# Altium integrated library Linear Technology Power Management LDO Linear Regulators.IntLib: 2339 symbols (part 34 of 131)
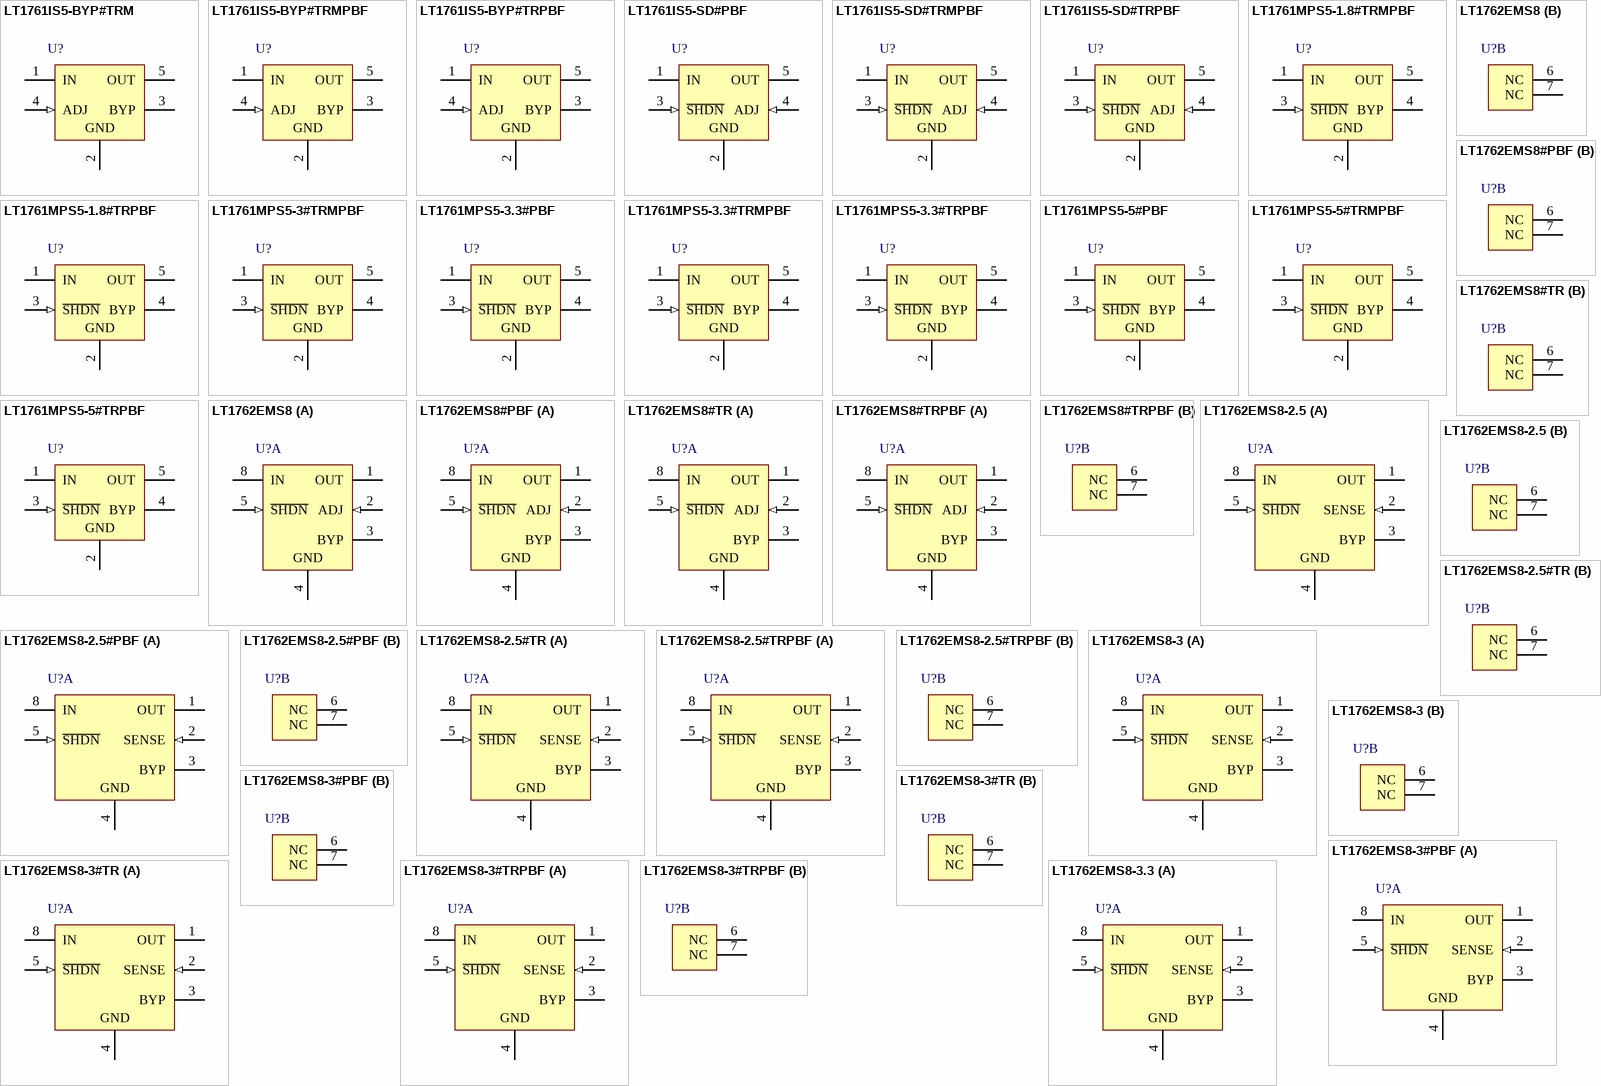
[diagram p102: symbols LT1761IS5-BYP#TRM to LT1762EMS8-3.3]

## LT1761MPS5-5#PBF
designator U?
100 mA, Low Noise, LDO Micropower Regulator, 1.8 to 20 V Vin, 5 V Vout, 5-pin SOT23 (S5-5), -55 to 125 degC, Pb-Free; Manufacturer: Linear Technology; PartNumber: LT1761MPS5-5#PBF; Discrete Pass Element: no; Dropout Voltage(V): 0.3; Iout(mA): 100; Isupply(mA): 0.02; Noise(uV): 20; Number of Outputs: 1; Output Voltage: 5 V; PSRR(dB): 65; Vin Min(V): 1.8; DatasheetVersion: Rev. F; PackageVersion: Jun-10; PackageReference: S5-5; PackageDescription: 5-Pin Plastic TSOT-23, Body 1.63 x 2.90 mm, Pitch 0.95 mm; Supplier 1: Farnell; Supplier Part Number 1: 1833788; Supplier 2: Newark; Supplier Part Number 2: 79R3064; RoHS: TRUE; Shutdown Current(uA): 1; Vin Max(V): 20; Mounting Technology: Surface Mount; Code_JEDEC: MO-193; ComponentLink1Description: Manufacturer URL; ComponentLink1URL: http://www.linear.com/; ComponentLink2Description: Datasheet; ComponentLink2URL: http://cds.linear.com/docs/en/datasheet/1761sff.pdf; ComponentLink3Description: Package Specification; ComponentLink3URL: http://cds.linear.com/docs/en/packaging/SOT_5_05-08-1635.pdf
footprint LT-S5-5-TSOT-23_N (SOT23, 5-Leads, Body 2.90x1.63mm, Pitch 0.95mm, IPC Medium Density)
footprint LT-S5-5-TSOT-23_L (SOT23, 5-Leads, Body 2.90x1.63mm, Pitch 0.95mm, IPC High Density)
footprint LT-S5-5-TSOT-23_M (SOT23, 5-Leads, Body 2.90x1.63mm, Pitch 0.95mm, IPC Low Density)
pins: 1 IN (power) "Power is supplied to the device through the IN pin.", 2 GND (power) "Ground.", 3 ~{SHDN} (in) "Shutdown.", 4 BYP "Bypass. If not used, this pin must be left unconnected.", 5 OUT (power) "The output supplies power to the load. A minimum output capacitor of 1uF is required to prevent oscillations. Larger output capacitors will be required for applications with large transient loads to limit peak voltage (See Datasheet)"

## LT1761MPS5-5#TRMPBF
designator U?
100 mA, Low Noise, LDO Micropower Regulator, 1.8 to 20 V Vin, 5 V Vout, 5-pin SOT23 (S5-5), -55 to 125 degC, Pb-Free, Mini Tape and Reel; Manufacturer: Linear Technology; PartNumber: LT1761MPS5-5#TRMPBF; Discrete Pass Element: no; Dropout Voltage(V): 0.3; Iout(mA): 100; Isupply(mA): 0.02; Noise(uV): 20; Number of Outputs: 1; Output Voltage: 5 V; PSRR(dB): 65; Vin Min(V): 1.8; DatasheetVersion: Rev. F; PackageVersion: Jun-10; PackageReference: S5-5; PackageDescription: 5-Pin Plastic TSOT-23, Body 1.63 x 2.90 mm, Pitch 0.95 mm; Supplier 1: Digi-Key; Supplier Part Number 1: LT1761MPS5-5#TRMPBFTR-ND; Supplier 2: Digi-Key; Supplier Part Number 2: LT1761MPS5-5#TRMPBFCT-ND; Supplier 3: Digi-Key; Supplier Part Number 3: LT1761MPS5-5#TRMPBFDKR-ND; Supplier 4: Newark; Supplier Part Number 4: 78R8409; Packing: Mini Tape and Reel; RoHS: TRUE; Shutdown Current(uA): 1; Vin Max(V): 20; Mounting Technology: Surface Mount; Code_JEDEC: MO-193; ComponentLink1Description: Manufacturer URL; ComponentLink1URL: http://www.linear.com/; ComponentLink2Description: Datasheet; ComponentLink2URL: http://cds.linear.com/docs/en/datasheet/1761sff.pdf; ComponentLink3Description: Package Specification; ComponentLink3URL: http://cds.linear.com/docs/en/packaging/SOT_5_05-08-1635.pdf
footprint LT-S5-5-TSOT-23_N (SOT23, 5-Leads, Body 2.90x1.63mm, Pitch 0.95mm, IPC Medium Density)
footprint LT-S5-5-TSOT-23_L (SOT23, 5-Leads, Body 2.90x1.63mm, Pitch 0.95mm, IPC High Density)
footprint LT-S5-5-TSOT-23_M (SOT23, 5-Leads, Body 2.90x1.63mm, Pitch 0.95mm, IPC Low Density)
pins: 1 IN (power) "Power is supplied to the device through the IN pin.", 2 GND (power) "Ground.", 3 ~{SHDN} (in) "Shutdown.", 4 BYP "Bypass. If not used, this pin must be left unconnected.", 5 OUT (power) "The output supplies power to the load. A minimum output capacitor of 1uF is required to prevent oscillations. Larger output capacitors will be required for applications with large transient loads to limit peak voltage (See Datasheet)"

## LT1761MPS5-5#TRPBF
designator U?
100 mA, Low Noise, LDO Micropower Regulator, 1.8 to 20 V Vin, 5 V Vout, 5-pin SOT23 (S5-5), -55 to 125 degC, Pb-Free, Tape and Reel; Manufacturer: Linear Technology; PartNumber: LT1761MPS5-5#TRPBF; Discrete Pass Element: no; Dropout Voltage(V): 0.3; Iout(mA): 100; Isupply(mA): 0.02; Noise(uV): 20; Number of Outputs: 1; Output Voltage: 5 V; PSRR(dB): 65; Vin Min(V): 1.8; DatasheetVersion: Rev. F; PackageVersion: Jun-10; PackageReference: S5-5; PackageDescription: 5-Pin Plastic TSOT-23, Body 1.63 x 2.90 mm, Pitch 0.95 mm; Supplier 1: Digi-Key; Supplier Part Number 1: LT1761MPS5-5#TRPBF-ND; Packing: Tape and Reel; RoHS: TRUE; Shutdown Current(uA): 1; Vin Max(V): 20; Mounting Technology: Surface Mount; Code_JEDEC: MO-193; ComponentLink1Description: Manufacturer URL; ComponentLink1URL: http://www.linear.com/; ComponentLink2Description: Datasheet; ComponentLink2URL: http://cds.linear.com/docs/en/datasheet/1761sff.pdf; ComponentLink3Description: Package Specification; ComponentLink3URL: http://cds.linear.com/docs/en/packaging/SOT_5_05-08-1635.pdf
footprint LT-S5-5-TSOT-23_N (SOT23, 5-Leads, Body 2.90x1.63mm, Pitch 0.95mm, IPC Medium Density)
footprint LT-S5-5-TSOT-23_L (SOT23, 5-Leads, Body 2.90x1.63mm, Pitch 0.95mm, IPC High Density)
footprint LT-S5-5-TSOT-23_M (SOT23, 5-Leads, Body 2.90x1.63mm, Pitch 0.95mm, IPC Low Density)
pins: 1 IN (power) "Power is supplied to the device through the IN pin.", 2 GND (power) "Ground.", 3 ~{SHDN} (in) "Shutdown.", 4 BYP "Bypass. If not used, this pin must be left unconnected.", 5 OUT (power) "The output supplies power to the load. A minimum output capacitor of 1uF is required to prevent oscillations. Larger output capacitors will be required for applications with large transient loads to limit peak voltage (See Datasheet)"

## LT1762EMS8
designator U?
150 mA, Low Noise, LDO Micropower Regulator, 1.8 to 20 V Vin, Adjustable Vout, 8-pin SOP (MS8-8), -40 to 125 degC; Manufacturer: Linear Technology; PartNumber: LT1762EMS8; Discrete Pass Element: no; Dropout Voltage(V): 0.27; Iout(mA): 150; Isupply(mA): 0.025; Noise(uV): 20; Number of Outputs: 1; Output Voltage: Adj; PSRR(dB): 65; Vin Min(V): 1.8; Vout Min(V): 1.22; DatasheetVersion: Rev. A; PackageVersion: Rev. G, 05/2013; PackageReference: MS8; PackageDescription: 8-Pin Plastic MSOP, Body 3 x 3 mm, Pitch 0.65 mm; Supplier 1: Digi-Key; Supplier Part Number 1: LT1762EMS8-ND; Supplier 2: Newark; Supplier Part Number 2: 57M5994; RoHS: FALSE; Shutdown Current(uA): 1; Vin Max(V): 20; Vout Max(V): 20; Mounting Technology: Surface Mount; ComponentLink1Description: Manufacturer URL; ComponentLink1URL: http://www.linear.com/; ComponentLink2Description: Datasheet; ComponentLink2URL: http://cds.linear.com/docs/en/datasheet/1762fa.pdf; ComponentLink3Description: Package Specification; ComponentLink3URL: http://cds.linear.com/docs/en/packaging/05081660_G_MS8.pdf
footprint LT-MS8_N (SOP, 8-Leads, Body 3x3mm, Pitch 0.65mm, IPC Medium Density)
footprint LT-MS8_L (SOP, 8-Leads, Body 3x3mm, Pitch 0.65mm, IPC High Density)
footprint LT-MS8_M (SOP, 8-Leads, Body 3x3mm, Pitch 0.65mm, IPC Low Density)
part A pins: 1 OUT (power) "Output. The output supplies power to the load.", 2 ADJ (in) "Adjust.", 3 BYP "Bypass.", 4 GND (power) "Ground.", 5 ~{SHDN} (in) "Shutdown.", 8 IN (power)
part B pins: 6 NC, 7 NC

## LT1762EMS8#PBF
designator U?
150 mA, Low Noise, LDO Micropower Regulator, 1.8 to 20 V Vin, Adjustable Vout, 8-pin SOP (MS8-8), -40 to 125 degC, Pb-Free; Manufacturer: Linear Technology; PartNumber: LT1762EMS8#PBF; Discrete Pass Element: no; Dropout Voltage(V): 0.27; Iout(mA): 150; Isupply(mA): 0.025; Noise(uV): 20; Number of Outputs: 1; Output Voltage: Adj; PSRR(dB): 65; Vin Min(V): 1.8; Vout Min(V): 1.22; DatasheetVersion: Rev. A; PackageVersion: Rev. G, 05/2013; PackageReference: MS8; PackageDescription: 8-Pin Plastic MSOP, Body 3 x 3 mm, Pitch 0.65 mm; Supplier 1: Digi-Key; Supplier Part Number 1: LT1762EMS8#PBF-ND; Supplier 2: Farnell; Supplier Part Number 2: 1273608; Supplier 3: Newark; Supplier Part Number 3: 57M6011; RoHS: TRUE; Shutdown Current(uA): 1; Vin Max(V): 20; Vout Max(V): 20; Mounting Technology: Surface Mount; ComponentLink1Description: Manufacturer URL; ComponentLink1URL: http://www.linear.com/; ComponentLink2Description: Datasheet; ComponentLink2URL: http://cds.linear.com/docs/en/datasheet/1762fa.pdf; ComponentLink3Description: Package Specification; ComponentLink3URL: http://cds.linear.com/docs/en/packaging/05081660_G_MS8.pdf
footprint LT-MS8_N (SOP, 8-Leads, Body 3x3mm, Pitch 0.65mm, IPC Medium Density)
footprint LT-MS8_L (SOP, 8-Leads, Body 3x3mm, Pitch 0.65mm, IPC High Density)
footprint LT-MS8_M (SOP, 8-Leads, Body 3x3mm, Pitch 0.65mm, IPC Low Density)
part A pins: 1 OUT (power) "Output. The output supplies power to the load.", 2 ADJ (in) "Adjust.", 3 BYP "Bypass.", 4 GND (power) "Ground.", 5 ~{SHDN} (in) "Shutdown.", 8 IN (power)
part B pins: 6 NC, 7 NC

## LT1762EMS8#TR
designator U?
150 mA, Low Noise, LDO Micropower Regulator, 1.8 to 20 V Vin, Adjustable Vout, 8-pin SOP (MS8-8), -40 to 125 degC, Tape and Reel; Manufacturer: Linear Technology; PartNumber: LT1762EMS8#TR; Discrete Pass Element: no; Dropout Voltage(V): 0.27; Iout(mA): 150; Isupply(mA): 0.025; Noise(uV): 20; Number of Outputs: 1; Output Voltage: Adj; PSRR(dB): 65; Vin Min(V): 1.8; Vout Min(V): 1.22; DatasheetVersion: Rev. A; PackageVersion: Rev. G, 05/2013; PackageReference: MS8; PackageDescription: 8-Pin Plastic MSOP, Body 3 x 3 mm, Pitch 0.65 mm; Supplier 1: Digi-Key; Supplier Part Number 1: LT1762EMS8#TR-ND; Packing: Tape and Reel; RoHS: FALSE; Shutdown Current(uA): 1; Vin Max(V): 20; Vout Max(V): 20; Mounting Technology: Surface Mount; ComponentLink1Description: Manufacturer URL; ComponentLink1URL: http://www.linear.com/; ComponentLink2Description: Datasheet; ComponentLink2URL: http://cds.linear.com/docs/en/datasheet/1762fa.pdf; ComponentLink3Description: Package Specification; ComponentLink3URL: http://cds.linear.com/docs/en/packaging/05081660_G_MS8.pdf
footprint LT-MS8_N (SOP, 8-Leads, Body 3x3mm, Pitch 0.65mm, IPC Medium Density)
footprint LT-MS8_L (SOP, 8-Leads, Body 3x3mm, Pitch 0.65mm, IPC High Density)
footprint LT-MS8_M (SOP, 8-Leads, Body 3x3mm, Pitch 0.65mm, IPC Low Density)
part A pins: 1 OUT (power) "Output. The output supplies power to the load.", 2 ADJ (in) "Adjust.", 3 BYP "Bypass.", 4 GND (power) "Ground.", 5 ~{SHDN} (in) "Shutdown.", 8 IN (power)
part B pins: 6 NC, 7 NC

## LT1762EMS8#TRPBF
designator U?
150 mA, Low Noise, LDO Micropower Regulator, 1.8 to 20 V Vin, Adjustable Vout, 8-pin SOP (MS8-8), -40 to 125 degC, Pb-Free, Tape and Reel; Manufacturer: Linear Technology; PartNumber: LT1762EMS8#TRPBF; Discrete Pass Element: no; Dropout Voltage(V): 0.27; Iout(mA): 150; Isupply(mA): 0.025; Noise(uV): 20; Number of Outputs: 1; Output Voltage: Adj; PSRR(dB): 65; Vin Min(V): 1.8; Vout Min(V): 1.22; DatasheetVersion: Rev. A; PackageVersion: Rev. G, 05/2013; PackageReference: MS8; PackageDescription: 8-Pin Plastic MSOP, Body 3 x 3 mm, Pitch 0.65 mm; Supplier 1: Digi-Key; Supplier Part Number 1: LT1762EMS8#TRPBF-ND; Supplier 2: Newark; Supplier Part Number 2: 57M6013; Packing: Tape and Reel; RoHS: TRUE; Shutdown Current(uA): 1; Vin Max(V): 20; Vout Max(V): 20; Mounting Technology: Surface Mount; ComponentLink1Description: Manufacturer URL; ComponentLink1URL: http://www.linear.com/; ComponentLink2Description: Datasheet; ComponentLink2URL: http://cds.linear.com/docs/en/datasheet/1762fa.pdf; ComponentLink3Description: Package Specification; ComponentLink3URL: http://cds.linear.com/docs/en/packaging/05081660_G_MS8.pdf
footprint LT-MS8_N (SOP, 8-Leads, Body 3x3mm, Pitch 0.65mm, IPC Medium Density)
footprint LT-MS8_L (SOP, 8-Leads, Body 3x3mm, Pitch 0.65mm, IPC High Density)
footprint LT-MS8_M (SOP, 8-Leads, Body 3x3mm, Pitch 0.65mm, IPC Low Density)
part A pins: 1 OUT (power) "Output. The output supplies power to the load.", 2 ADJ (in) "Adjust.", 3 BYP "Bypass.", 4 GND (power) "Ground.", 5 ~{SHDN} (in) "Shutdown.", 8 IN (power)
part B pins: 6 NC, 7 NC

## LT1762EMS8-2.5
designator U?
150 mA, Low Noise, LDO Micropower Regulator, 1.8 to 20 V Vin, 2.5 V Vout, 8-pin SOP (MS8-8), -40 to 125 degC; Manufacturer: Linear Technology; PartNumber: LT1762EMS8-2.5; Discrete Pass Element: no; Dropout Voltage(V): 0.27; Iout(mA): 150; Isupply(mA): 0.025; Noise(uV): 20; Number of Outputs: 1; Output Voltage: 2.5 V; PSRR(dB): 65; Vin Min(V): 1.8; DatasheetVersion: Rev. A; PackageVersion: Rev. G, 05/2013; PackageReference: MS8; PackageDescription: 8-Pin Plastic MSOP, Body 3 x 3 mm, Pitch 0.65 mm; Supplier 1: Digi-Key; Supplier Part Number 1: LT1762EMS8-2.5-ND; Supplier 2: Newark; Supplier Part Number 2: 57M5995; RoHS: FALSE; Shutdown Current(uA): 1; Vin Max(V): 20; Mounting Technology: Surface Mount; ComponentLink1Description: Manufacturer URL; ComponentLink1URL: http://www.linear.com/; ComponentLink2Description: Datasheet; ComponentLink2URL: http://cds.linear.com/docs/en/datasheet/1762fa.pdf; ComponentLink3Description: Package Specification; ComponentLink3URL: http://cds.linear.com/docs/en/packaging/05081660_G_MS8.pdf
footprint LT-MS8_N (SOP, 8-Leads, Body 3x3mm, Pitch 0.65mm, IPC Medium Density)
footprint LT-MS8_L (SOP, 8-Leads, Body 3x3mm, Pitch 0.65mm, IPC High Density)
footprint LT-MS8_M (SOP, 8-Leads, Body 3x3mm, Pitch 0.65mm, IPC Low Density)
part A pins: 1 OUT (power) "Output. The output supplies power to the load.", 2 SENSE (in) "Sense. For fixed voltage versions, the SENSE pin is the input to the error amplifier. Optimum regulation will be obtained at the point where the SENSE pin is connected to the OUT pin of the regulator. In critical (See Datasheet)", 3 BYP "Bypass. The BYP pin is used to bypass the reference of the LT1762 regulators to achieve low noise performance from the regulator. The BYP pin is clamped internally to +/-0.6V (one VBE). A small capacitor from the output to (See Datasheet)", 4 GND (power) "Ground.", 5 ~{SHDN} (in) "Shutdown. The S\H\D\N\ pin is used to put the regulators into a low power shutdown state. The output will be off when the S\H\D\N\ pin is pulled low. The S\H\D\N\ pin can be driven either by 5V logic or opencollector logic (See Datasheet)", 8 IN (power) "Input. Power is supplied to the device through the IN pin. A bypass capacitor is required on this pin if the device is more than six inches away from the main input filter capacitor. In general, the output impedance of a (See Datasheet)"
part B pins: 6 NC, 7 NC

## LT1762EMS8-2.5#PBF
designator U?
150 mA, Low Noise, LDO Micropower Regulator, 1.8 to 20 V Vin, 2.5 V Vout, 8-pin SOP (MS8-8), -40 to 125 degC, Pb-Free; Manufacturer: Linear Technology; PartNumber: LT1762EMS8-2.5#PBF; Discrete Pass Element: no; Dropout Voltage(V): 0.27; Iout(mA): 150; Isupply(mA): 0.025; Noise(uV): 20; Number of Outputs: 1; Output Voltage: 2.5 V; PSRR(dB): 65; Vin Min(V): 1.8; DatasheetVersion: Rev. A; PackageVersion: Rev. G, 05/2013; PackageReference: MS8; PackageDescription: 8-Pin Plastic MSOP, Body 3 x 3 mm, Pitch 0.65 mm; Supplier 1: Digi-Key; Supplier Part Number 1: LT1762EMS8-2.5#PBF-ND; Supplier 2: Farnell; Supplier Part Number 2: 1273609; Supplier 3: Newark; Supplier Part Number 3: 57M5996; RoHS: TRUE; Shutdown Current(uA): 1; Vin Max(V): 20; Mounting Technology: Surface Mount; ComponentLink1Description: Manufacturer URL; ComponentLink1URL: http://www.linear.com/; ComponentLink2Description: Datasheet; ComponentLink2URL: http://cds.linear.com/docs/en/datasheet/1762fa.pdf; ComponentLink3Description: Package Specification; ComponentLink3URL: http://cds.linear.com/docs/en/packaging/05081660_G_MS8.pdf
footprint LT-MS8_N (SOP, 8-Leads, Body 3x3mm, Pitch 0.65mm, IPC Medium Density)
footprint LT-MS8_L (SOP, 8-Leads, Body 3x3mm, Pitch 0.65mm, IPC High Density)
footprint LT-MS8_M (SOP, 8-Leads, Body 3x3mm, Pitch 0.65mm, IPC Low Density)
part A pins: 1 OUT (power) "Output. The output supplies power to the load.", 2 SENSE (in) "Sense. For fixed voltage versions, the SENSE pin is the input to the error amplifier. Optimum regulation will be obtained at the point where the SENSE pin is connected to the OUT pin of the regulator. In critical (See Datasheet)", 3 BYP "Bypass. The BYP pin is used to bypass the reference of the LT1762 regulators to achieve low noise performance from the regulator. The BYP pin is clamped internally to +/-0.6V (one VBE). A small capacitor from the output to (See Datasheet)", 4 GND (power) "Ground.", 5 ~{SHDN} (in) "Shutdown. The S\H\D\N\ pin is used to put the regulators into a low power shutdown state. The output will be off when the S\H\D\N\ pin is pulled low. The S\H\D\N\ pin can be driven either by 5V logic or opencollector logic (See Datasheet)", 8 IN (power) "Input. Power is supplied to the device through the IN pin. A bypass capacitor is required on this pin if the device is more than six inches away from the main input filter capacitor. In general, the output impedance of a (See Datasheet)"
part B pins: 6 NC, 7 NC

## LT1762EMS8-2.5#TR
designator U?
150 mA, Low Noise, LDO Micropower Regulator, 1.8 to 20 V Vin, 2.5 V Vout, 8-pin SOP (MS8-8), -40 to 125 degC, Tape and Reel; Manufacturer: Linear Technology; PartNumber: LT1762EMS8-2.5#TR; Discrete Pass Element: no; Dropout Voltage(V): 0.27; Iout(mA): 150; Isupply(mA): 0.025; Noise(uV): 20; Number of Outputs: 1; Output Voltage: 2.5 V; PSRR(dB): 65; Vin Min(V): 1.8; DatasheetVersion: Rev. A; PackageVersion: Rev. G, 05/2013; PackageReference: MS8; PackageDescription: 8-Pin Plastic MSOP, Body 3 x 3 mm, Pitch 0.65 mm; Supplier 1: Digi-Key; Supplier Part Number 1: LT1762EMS8-2.5#TR-ND; Supplier 2: Newark; Supplier Part Number 2: 57M5997; Packing: Tape and Reel; RoHS: FALSE; Shutdown Current(uA): 1; Vin Max(V): 20; Mounting Technology: Surface Mount; ComponentLink1Description: Manufacturer URL; ComponentLink1URL: http://www.linear.com/; ComponentLink2Description: Datasheet; ComponentLink2URL: http://cds.linear.com/docs/en/datasheet/1762fa.pdf; ComponentLink3Description: Package Specification; ComponentLink3URL: http://cds.linear.com/docs/en/packaging/05081660_G_MS8.pdf
footprint LT-MS8_N (SOP, 8-Leads, Body 3x3mm, Pitch 0.65mm, IPC Medium Density)
footprint LT-MS8_L (SOP, 8-Leads, Body 3x3mm, Pitch 0.65mm, IPC High Density)
footprint LT-MS8_M (SOP, 8-Leads, Body 3x3mm, Pitch 0.65mm, IPC Low Density)
part A pins: 1 OUT (power) "Output. The output supplies power to the load.", 2 SENSE (in) "Sense. For fixed voltage versions, the SENSE pin is the input to the error amplifier. Optimum regulation will be obtained at the point where the SENSE pin is connected to the OUT pin of the regulator. In critical (See Datasheet)", 3 BYP "Bypass. The BYP pin is used to bypass the reference of the LT1762 regulators to achieve low noise performance from the regulator. The BYP pin is clamped internally to +/-0.6V (one VBE). A small capacitor from the output to (See Datasheet)", 4 GND (power) "Ground.", 5 ~{SHDN} (in) "Shutdown. The S\H\D\N\ pin is used to put the regulators into a low power shutdown state. The output will be off when the S\H\D\N\ pin is pulled low. The S\H\D\N\ pin can be driven either by 5V logic or opencollector logic (See Datasheet)", 8 IN (power) "Input. Power is supplied to the device through the IN pin. A bypass capacitor is required on this pin if the device is more than six inches away from the main input filter capacitor. In general, the output impedance of a (See Datasheet)"
part B pins: 6 NC, 7 NC

## LT1762EMS8-2.5#TRPBF
designator U?
150 mA, Low Noise, LDO Micropower Regulator, 1.8 to 20 V Vin, 2.5 V Vout, 8-pin SOP (MS8-8), -40 to 125 degC, Pb-Free, Tape and Reel; Manufacturer: Linear Technology; PartNumber: LT1762EMS8-2.5#TRPBF; Discrete Pass Element: no; Dropout Voltage(V): 0.27; Iout(mA): 150; Isupply(mA): 0.025; Noise(uV): 20; Number of Outputs: 1; Output Voltage: 2.5 V; PSRR(dB): 65; Vin Min(V): 1.8; DatasheetVersion: Rev. A; PackageVersion: Rev. G, 05/2013; PackageReference: MS8; PackageDescription: 8-Pin Plastic MSOP, Body 3 x 3 mm, Pitch 0.65 mm; Supplier 1: Digi-Key; Supplier Part Number 1: LT1762EMS8-2.5#TRPBF-ND; Supplier 2: Newark; Supplier Part Number 2: 57M5998; Packing: Tape and Reel; RoHS: TRUE; Shutdown Current(uA): 1; Vin Max(V): 20; Mounting Technology: Surface Mount; ComponentLink1Description: Manufacturer URL; ComponentLink1URL: http://www.linear.com/; ComponentLink2Description: Datasheet; ComponentLink2URL: http://cds.linear.com/docs/en/datasheet/1762fa.pdf; ComponentLink3Description: Package Specification; ComponentLink3URL: http://cds.linear.com/docs/en/packaging/05081660_G_MS8.pdf
footprint LT-MS8_N (SOP, 8-Leads, Body 3x3mm, Pitch 0.65mm, IPC Medium Density)
footprint LT-MS8_L (SOP, 8-Leads, Body 3x3mm, Pitch 0.65mm, IPC High Density)
footprint LT-MS8_M (SOP, 8-Leads, Body 3x3mm, Pitch 0.65mm, IPC Low Density)
part A pins: 1 OUT (power) "Output. The output supplies power to the load.", 2 SENSE (in) "Sense. For fixed voltage versions, the SENSE pin is the input to the error amplifier. Optimum regulation will be obtained at the point where the SENSE pin is connected to the OUT pin of the regulator. In critical (See Datasheet)", 3 BYP "Bypass. The BYP pin is used to bypass the reference of the LT1762 regulators to achieve low noise performance from the regulator. The BYP pin is clamped internally to +/-0.6V (one VBE). A small capacitor from the output to (See Datasheet)", 4 GND (power) "Ground.", 5 ~{SHDN} (in) "Shutdown. The S\H\D\N\ pin is used to put the regulators into a low power shutdown state. The output will be off when the S\H\D\N\ pin is pulled low. The S\H\D\N\ pin can be driven either by 5V logic or opencollector logic (See Datasheet)", 8 IN (power) "Input. Power is supplied to the device through the IN pin. A bypass capacitor is required on this pin if the device is more than six inches away from the main input filter capacitor. In general, the output impedance of a (See Datasheet)"
part B pins: 6 NC, 7 NC

## LT1762EMS8-3
designator U?
150 mA, Low Noise, LDO Micropower Regulator, 1.8 to 20 V Vin, 3 V Vout, 8-pin SOP (MS8-8), -40 to 125 degC; Manufacturer: Linear Technology; PartNumber: LT1762EMS8-3; Discrete Pass Element: no; Dropout Voltage(V): 0.27; Iout(mA): 150; Isupply(mA): 0.025; Noise(uV): 20; Number of Outputs: 1; Output Voltage: 3 V; PSRR(dB): 65; Vin Min(V): 1.8; DatasheetVersion: Rev. A; PackageVersion: Rev. G, 05/2013; PackageReference: MS8; PackageDescription: 8-Pin Plastic MSOP, Body 3 x 3 mm, Pitch 0.65 mm; Supplier 1: Digi-Key; Supplier Part Number 1: LT1762EMS8-3-ND; RoHS: FALSE; Shutdown Current(uA): 1; Vin Max(V): 20; Mounting Technology: Surface Mount; ComponentLink1Description: Manufacturer URL; ComponentLink1URL: http://www.linear.com/; ComponentLink2Description: Datasheet; ComponentLink2URL: http://cds.linear.com/docs/en/datasheet/1762fa.pdf; ComponentLink3Description: Package Specification; ComponentLink3URL: http://cds.linear.com/docs/en/packaging/05081660_G_MS8.pdf
footprint LT-MS8_N (SOP, 8-Leads, Body 3x3mm, Pitch 0.65mm, IPC Medium Density)
footprint LT-MS8_L (SOP, 8-Leads, Body 3x3mm, Pitch 0.65mm, IPC High Density)
footprint LT-MS8_M (SOP, 8-Leads, Body 3x3mm, Pitch 0.65mm, IPC Low Density)
part A pins: 1 OUT (power) "Output. The output supplies power to the load.", 2 SENSE (in) "Sense. For fixed voltage versions, the SENSE pin is the input to the error amplifier. Optimum regulation will be obtained at the point where the SENSE pin is connected to the OUT pin of the regulator. In critical (See Datasheet)", 3 BYP "Bypass. The BYP pin is used to bypass the reference of the LT1762 regulators to achieve low noise performance from the regulator. The BYP pin is clamped internally to +/-0.6V (one VBE). A small capacitor from the output to (See Datasheet)", 4 GND (power) "Ground.", 5 ~{SHDN} (in) "Shutdown. The S\H\D\N\ pin is used to put the regulators into a low power shutdown state. The output will be off when the S\H\D\N\ pin is pulled low. The S\H\D\N\ pin can be driven either by 5V logic or opencollector logic (See Datasheet)", 8 IN (power) "Input. Power is supplied to the device through the IN pin. A bypass capacitor is required on this pin if the device is more than six inches away from the main input filter capacitor. In general, the output impedance of a (See Datasheet)"
part B pins: 6 NC, 7 NC

## LT1762EMS8-3#PBF
designator U?
150 mA, Low Noise, LDO Micropower Regulator, 1.8 to 20 V Vin, 3 V Vout, 8-pin SOP (MS8-8), -40 to 125 degC, Pb-Free; Manufacturer: Linear Technology; PartNumber: LT1762EMS8-3#PBF; Discrete Pass Element: no; Dropout Voltage(V): 0.27; Iout(mA): 150; Isupply(mA): 0.025; Noise(uV): 20; Number of Outputs: 1; Output Voltage: 3 V; PSRR(dB): 65; Vin Min(V): 1.8; DatasheetVersion: Rev. A; PackageVersion: Rev. G, 05/2013; PackageReference: MS8; PackageDescription: 8-Pin Plastic MSOP, Body 3 x 3 mm, Pitch 0.65 mm; Supplier 1: Digi-Key; Supplier Part Number 1: LT1762EMS8-3#PBF-ND; Supplier 2: Farnell; Supplier Part Number 2: 1273610; Supplier 3: Newark; Supplier Part Number 3: 57M6004; RoHS: TRUE; Shutdown Current(uA): 1; Vin Max(V): 20; Mounting Technology: Surface Mount; ComponentLink1Description: Manufacturer URL; ComponentLink1URL: http://www.linear.com/; ComponentLink2Description: Datasheet; ComponentLink2URL: http://cds.linear.com/docs/en/datasheet/1762fa.pdf; ComponentLink3Description: Package Specification; ComponentLink3URL: http://cds.linear.com/docs/en/packaging/05081660_G_MS8.pdf
footprint LT-MS8_N (SOP, 8-Leads, Body 3x3mm, Pitch 0.65mm, IPC Medium Density)
footprint LT-MS8_L (SOP, 8-Leads, Body 3x3mm, Pitch 0.65mm, IPC High Density)
footprint LT-MS8_M (SOP, 8-Leads, Body 3x3mm, Pitch 0.65mm, IPC Low Density)
part A pins: 1 OUT (power) "Output. The output supplies power to the load.", 2 SENSE (in) "Sense. For fixed voltage versions, the SENSE pin is the input to the error amplifier. Optimum regulation will be obtained at the point where the SENSE pin is connected to the OUT pin of the regulator. In critical (See Datasheet)", 3 BYP "Bypass. The BYP pin is used to bypass the reference of the LT1762 regulators to achieve low noise performance from the regulator. The BYP pin is clamped internally to +/-0.6V (one VBE). A small capacitor from the output to (See Datasheet)", 4 GND (power) "Ground.", 5 ~{SHDN} (in) "Shutdown. The S\H\D\N\ pin is used to put the regulators into a low power shutdown state. The output will be off when the S\H\D\N\ pin is pulled low. The S\H\D\N\ pin can be driven either by 5V logic or opencollector logic (See Datasheet)", 8 IN (power) "Input. Power is supplied to the device through the IN pin. A bypass capacitor is required on this pin if the device is more than six inches away from the main input filter capacitor. In general, the output impedance of a (See Datasheet)"
part B pins: 6 NC, 7 NC

## LT1762EMS8-3#TR
designator U?
150 mA, Low Noise, LDO Micropower Regulator, 1.8 to 20 V Vin, 3 V Vout, 8-pin SOP (MS8-8), -40 to 125 degC, Tape and Reel; Manufacturer: Linear Technology; PartNumber: LT1762EMS8-3#TR; Discrete Pass Element: no; Dropout Voltage(V): 0.27; Iout(mA): 150; Isupply(mA): 0.025; Noise(uV): 20; Number of Outputs: 1; Output Voltage: 3 V; PSRR(dB): 65; Vin Min(V): 1.8; DatasheetVersion: Rev. A; PackageVersion: Rev. G, 05/2013; PackageReference: MS8; PackageDescription: 8-Pin Plastic MSOP, Body 3 x 3 mm, Pitch 0.65 mm; Supplier 1: Digi-Key; Supplier Part Number 1: LT1762EMS8-3#TR-ND; Packing: Tape and Reel; RoHS: FALSE; Shutdown Current(uA): 1; Vin Max(V): 20; Mounting Technology: Surface Mount; ComponentLink1Description: Manufacturer URL; ComponentLink1URL: http://www.linear.com/; ComponentLink2Description: Datasheet; ComponentLink2URL: http://cds.linear.com/docs/en/datasheet/1762fa.pdf; ComponentLink3Description: Package Specification; ComponentLink3URL: http://cds.linear.com/docs/en/packaging/05081660_G_MS8.pdf
footprint LT-MS8_N (SOP, 8-Leads, Body 3x3mm, Pitch 0.65mm, IPC Medium Density)
footprint LT-MS8_L (SOP, 8-Leads, Body 3x3mm, Pitch 0.65mm, IPC High Density)
footprint LT-MS8_M (SOP, 8-Leads, Body 3x3mm, Pitch 0.65mm, IPC Low Density)
part A pins: 1 OUT (power) "Output. The output supplies power to the load.", 2 SENSE (in) "Sense. For fixed voltage versions, the SENSE pin is the input to the error amplifier. Optimum regulation will be obtained at the point where the SENSE pin is connected to the OUT pin of the regulator. In critical (See Datasheet)", 3 BYP "Bypass. The BYP pin is used to bypass the reference of the LT1762 regulators to achieve low noise performance from the regulator. The BYP pin is clamped internally to +/-0.6V (one VBE). A small capacitor from the output to (See Datasheet)", 4 GND (power) "Ground.", 5 ~{SHDN} (in) "Shutdown. The S\H\D\N\ pin is used to put the regulators into a low power shutdown state. The output will be off when the S\H\D\N\ pin is pulled low. The S\H\D\N\ pin can be driven either by 5V logic or opencollector logic (See Datasheet)", 8 IN (power) "Input. Power is supplied to the device through the IN pin. A bypass capacitor is required on this pin if the device is more than six inches away from the main input filter capacitor. In general, the output impedance of a (See Datasheet)"
part B pins: 6 NC, 7 NC

## LT1762EMS8-3#TRPBF
designator U?
150 mA, Low Noise, LDO Micropower Regulator, 1.8 to 20 V Vin, 3 V Vout, 8-pin SOP (MS8-8), -40 to 125 degC, Pb-Free, Tape and Reel; Manufacturer: Linear Technology; PartNumber: LT1762EMS8-3#TRPBF; Discrete Pass Element: no; Dropout Voltage(V): 0.27; Iout(mA): 150; Isupply(mA): 0.025; Noise(uV): 20; Number of Outputs: 1; Output Voltage: 3 V; PSRR(dB): 65; Vin Min(V): 1.8; DatasheetVersion: Rev. A; PackageVersion: Rev. G, 05/2013; PackageReference: MS8; PackageDescription: 8-Pin Plastic MSOP, Body 3 x 3 mm, Pitch 0.65 mm; Supplier 1: Digi-Key; Supplier Part Number 1: LT1762EMS8-3#TRPBF-ND; Supplier 2: Newark; Supplier Part Number 2: 57M6006; Packing: Tape and Reel; RoHS: TRUE; Shutdown Current(uA): 1; Vin Max(V): 20; Mounting Technology: Surface Mount; ComponentLink1Description: Manufacturer URL; ComponentLink1URL: http://www.linear.com/; ComponentLink2Description: Datasheet; ComponentLink2URL: http://cds.linear.com/docs/en/datasheet/1762fa.pdf; ComponentLink3Description: Package Specification; ComponentLink3URL: http://cds.linear.com/docs/en/packaging/05081660_G_MS8.pdf
footprint LT-MS8_N (SOP, 8-Leads, Body 3x3mm, Pitch 0.65mm, IPC Medium Density)
footprint LT-MS8_L (SOP, 8-Leads, Body 3x3mm, Pitch 0.65mm, IPC High Density)
footprint LT-MS8_M (SOP, 8-Leads, Body 3x3mm, Pitch 0.65mm, IPC Low Density)
part A pins: 1 OUT (power) "Output. The output supplies power to the load.", 2 SENSE (in) "Sense. For fixed voltage versions, the SENSE pin is the input to the error amplifier. Optimum regulation will be obtained at the point where the SENSE pin is connected to the OUT pin of the regulator. In critical (See Datasheet)", 3 BYP "Bypass. The BYP pin is used to bypass the reference of the LT1762 regulators to achieve low noise performance from the regulator. The BYP pin is clamped internally to +/-0.6V (one VBE). A small capacitor from the output to (See Datasheet)", 4 GND (power) "Ground.", 5 ~{SHDN} (in) "Shutdown. The S\H\D\N\ pin is used to put the regulators into a low power shutdown state. The output will be off when the S\H\D\N\ pin is pulled low. The S\H\D\N\ pin can be driven either by 5V logic or opencollector logic (See Datasheet)", 8 IN (power) "Input. Power is supplied to the device through the IN pin. A bypass capacitor is required on this pin if the device is more than six inches away from the main input filter capacitor. In general, the output impedance of a (See Datasheet)"
part B pins: 6 NC, 7 NC

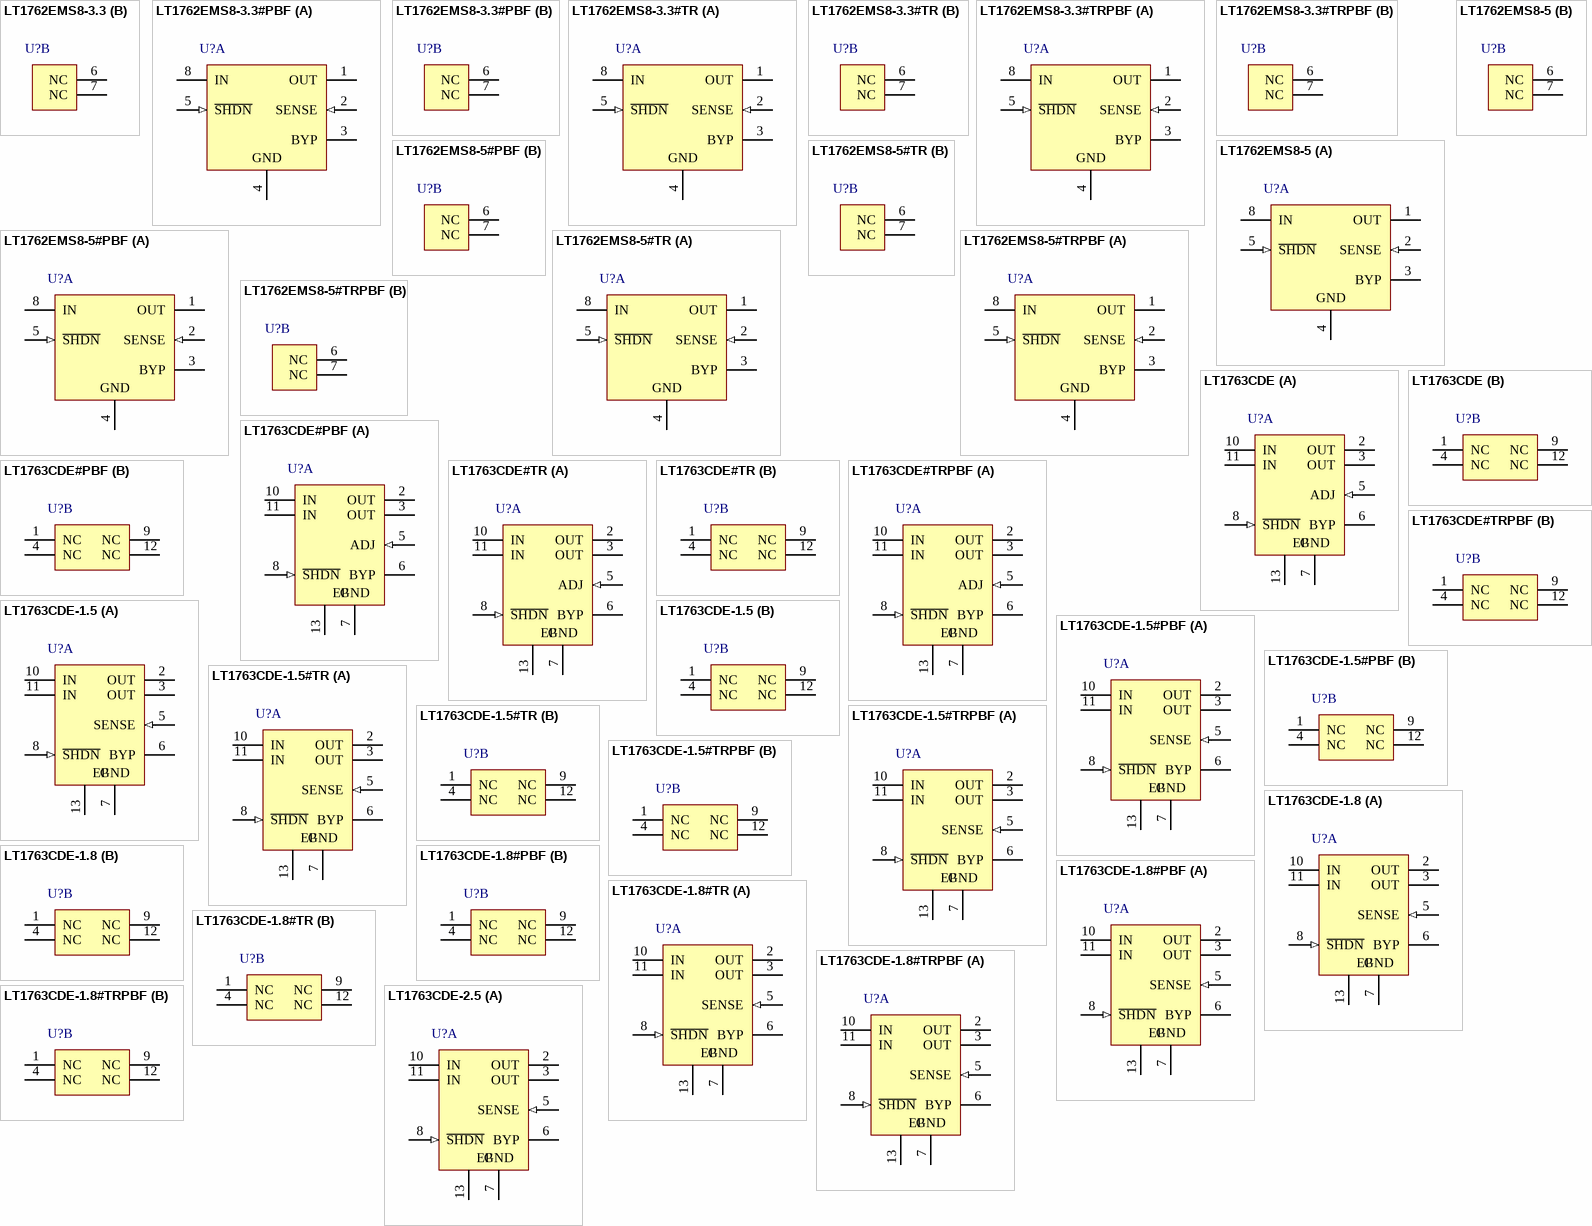
[diagram p24: symbols LT1762EMS8-3.3 to LT1763CDE-2.5]

## LT1762EMS8-3.3
designator U?
150 mA, Low Noise, LDO Micropower Regulator, 1.8 to 20 V Vin, 3.3 V Vout, 8-pin SOP (MS8-8), -40 to 125 degC; Manufacturer: Linear Technology; PartNumber: LT1762EMS8-3.3; Discrete Pass Element: no; Dropout Voltage(V): 0.27; Iout(mA): 150; Isupply(mA): 0.025; Noise(uV): 20; Number of Outputs: 1; Output Voltage: 3.3 V; PSRR(dB): 65; Vin Min(V): 1.8; DatasheetVersion: Rev. A; PackageVersion: Rev. G, 05/2013; PackageReference: MS8; PackageDescription: 8-Pin Plastic MSOP, Body 3 x 3 mm, Pitch 0.65 mm; Supplier 1: Digi-Key; Supplier Part Number 1: LT1762EMS8-3.3-ND; Supplier 2: Newark; Supplier Part Number 2: 57M6000; RoHS: FALSE; Shutdown Current(uA): 1; Vin Max(V): 20; Mounting Technology: Surface Mount; ComponentLink1Description: Manufacturer URL; ComponentLink1URL: http://www.linear.com/; ComponentLink2Description: Datasheet; ComponentLink2URL: http://cds.linear.com/docs/en/datasheet/1762fa.pdf; ComponentLink3Description: Package Specification; ComponentLink3URL: http://cds.linear.com/docs/en/packaging/05081660_G_MS8.pdf
footprint LT-MS8_N (SOP, 8-Leads, Body 3x3mm, Pitch 0.65mm, IPC Medium Density)
footprint LT-MS8_L (SOP, 8-Leads, Body 3x3mm, Pitch 0.65mm, IPC High Density)
footprint LT-MS8_M (SOP, 8-Leads, Body 3x3mm, Pitch 0.65mm, IPC Low Density)
part A pins: 1 OUT (power) "Output. The output supplies power to the load.", 2 SENSE (in) "Sense. For fixed voltage versions, the SENSE pin is the input to the error amplifier. Optimum regulation will be obtained at the point where the SENSE pin is connected to the OUT pin of the regulator. In critical (See Datasheet)", 3 BYP "Bypass. The BYP pin is used to bypass the reference of the LT1762 regulators to achieve low noise performance from the regulator. The BYP pin is clamped internally to +/-0.6V (one VBE). A small capacitor from the output to (See Datasheet)", 4 GND (power) "Ground.", 5 ~{SHDN} (in) "Shutdown. The S\H\D\N\ pin is used to put the regulators into a low power shutdown state. The output will be off when the S\H\D\N\ pin is pulled low. The S\H\D\N\ pin can be driven either by 5V logic or opencollector logic (See Datasheet)", 8 IN (power) "Input. Power is supplied to the device through the IN pin. A bypass capacitor is required on this pin if the device is more than six inches away from the main input filter capacitor. In general, the output impedance of a (See Datasheet)"
part B pins: 6 NC, 7 NC

## LT1762EMS8-3.3#PBF
designator U?
150 mA, Low Noise, LDO Micropower Regulator, 1.8 to 20 V Vin, 3.3 V Vout, 8-pin SOP (MS8-8), -40 to 125 degC, Pb-Free; Manufacturer: Linear Technology; PartNumber: LT1762EMS8-3.3#PBF; Discrete Pass Element: no; Dropout Voltage(V): 0.27; Iout(mA): 150; Isupply(mA): 0.025; Noise(uV): 20; Number of Outputs: 1; Output Voltage: 3.3 V; PSRR(dB): 65; Vin Min(V): 1.8; DatasheetVersion: Rev. A; PackageVersion: Rev. G, 05/2013; PackageReference: MS8; PackageDescription: 8-Pin Plastic MSOP, Body 3 x 3 mm, Pitch 0.65 mm; Supplier 1: Digi-Key; Supplier Part Number 1: LT1762EMS8-3.3#PBF-ND; Supplier 2: Farnell; Supplier Part Number 2: 1273611; Supplier 3: Newark; Supplier Part Number 3: 57M6001; RoHS: TRUE; Shutdown Current(uA): 1; Vin Max(V): 20; Mounting Technology: Surface Mount; ComponentLink1Description: Manufacturer URL; ComponentLink1URL: http://www.linear.com/; ComponentLink2Description: Datasheet; ComponentLink2URL: http://cds.linear.com/docs/en/datasheet/1762fa.pdf; ComponentLink3Description: Package Specification; ComponentLink3URL: http://cds.linear.com/docs/en/packaging/05081660_G_MS8.pdf
footprint LT-MS8_N (SOP, 8-Leads, Body 3x3mm, Pitch 0.65mm, IPC Medium Density)
footprint LT-MS8_L (SOP, 8-Leads, Body 3x3mm, Pitch 0.65mm, IPC High Density)
footprint LT-MS8_M (SOP, 8-Leads, Body 3x3mm, Pitch 0.65mm, IPC Low Density)
part A pins: 1 OUT (power) "Output. The output supplies power to the load.", 2 SENSE (in) "Sense. For fixed voltage versions, the SENSE pin is the input to the error amplifier. Optimum regulation will be obtained at the point where the SENSE pin is connected to the OUT pin of the regulator. In critical (See Datasheet)", 3 BYP "Bypass. The BYP pin is used to bypass the reference of the LT1762 regulators to achieve low noise performance from the regulator. The BYP pin is clamped internally to +/-0.6V (one VBE). A small capacitor from the output to (See Datasheet)", 4 GND (power) "Ground.", 5 ~{SHDN} (in) "Shutdown. The S\H\D\N\ pin is used to put the regulators into a low power shutdown state. The output will be off when the S\H\D\N\ pin is pulled low. The S\H\D\N\ pin can be driven either by 5V logic or opencollector logic (See Datasheet)", 8 IN (power) "Input. Power is supplied to the device through the IN pin. A bypass capacitor is required on this pin if the device is more than six inches away from the main input filter capacitor. In general, the output impedance of a (See Datasheet)"
part B pins: 6 NC, 7 NC

## LT1762EMS8-3.3#TR
designator U?
150 mA, Low Noise, LDO Micropower Regulator, 1.8 to 20 V Vin, 3.3 V Vout, 8-pin SOP (MS8-8), -40 to 125 degC, Tape and Reel; Manufacturer: Linear Technology; PartNumber: LT1762EMS8-3.3#TR; Discrete Pass Element: no; Dropout Voltage(V): 0.27; Iout(mA): 150; Isupply(mA): 0.025; Noise(uV): 20; Number of Outputs: 1; Output Voltage: 3.3 V; PSRR(dB): 65; Vin Min(V): 1.8; DatasheetVersion: Rev. A; PackageVersion: Rev. G, 05/2013; PackageReference: MS8; PackageDescription: 8-Pin Plastic MSOP, Body 3 x 3 mm, Pitch 0.65 mm; Supplier 1: Digi-Key; Supplier Part Number 1: LT1762EMS8-3.3#TR-ND; Supplier 2: Newark; Supplier Part Number 2: 57M6002; Packing: Tape and Reel; RoHS: FALSE; Shutdown Current(uA): 1; Vin Max(V): 20; Mounting Technology: Surface Mount; ComponentLink1Description: Manufacturer URL; ComponentLink1URL: http://www.linear.com/; ComponentLink2Description: Datasheet; ComponentLink2URL: http://cds.linear.com/docs/en/datasheet/1762fa.pdf; ComponentLink3Description: Package Specification; ComponentLink3URL: http://cds.linear.com/docs/en/packaging/05081660_G_MS8.pdf
footprint LT-MS8_N (SOP, 8-Leads, Body 3x3mm, Pitch 0.65mm, IPC Medium Density)
footprint LT-MS8_L (SOP, 8-Leads, Body 3x3mm, Pitch 0.65mm, IPC High Density)
footprint LT-MS8_M (SOP, 8-Leads, Body 3x3mm, Pitch 0.65mm, IPC Low Density)
part A pins: 1 OUT (power) "Output. The output supplies power to the load.", 2 SENSE (in) "Sense. For fixed voltage versions, the SENSE pin is the input to the error amplifier. Optimum regulation will be obtained at the point where the SENSE pin is connected to the OUT pin of the regulator. In critical (See Datasheet)", 3 BYP "Bypass. The BYP pin is used to bypass the reference of the LT1762 regulators to achieve low noise performance from the regulator. The BYP pin is clamped internally to +/-0.6V (one VBE). A small capacitor from the output to (See Datasheet)", 4 GND (power) "Ground.", 5 ~{SHDN} (in) "Shutdown. The S\H\D\N\ pin is used to put the regulators into a low power shutdown state. The output will be off when the S\H\D\N\ pin is pulled low. The S\H\D\N\ pin can be driven either by 5V logic or opencollector logic (See Datasheet)", 8 IN (power) "Input. Power is supplied to the device through the IN pin. A bypass capacitor is required on this pin if the device is more than six inches away from the main input filter capacitor. In general, the output impedance of a (See Datasheet)"
part B pins: 6 NC, 7 NC

## LT1762EMS8-3.3#TRPBF
designator U?
150 mA, Low Noise, LDO Micropower Regulator, 1.8 to 20 V Vin, 3.3 V Vout, 8-pin SOP (MS8-8), -40 to 125 degC, Pb-Free, Tape and Reel; Manufacturer: Linear Technology; PartNumber: LT1762EMS8-3.3#TRPBF; Discrete Pass Element: no; Dropout Voltage(V): 0.27; Iout(mA): 150; Isupply(mA): 0.025; Noise(uV): 20; Number of Outputs: 1; Output Voltage: 3.3 V; PSRR(dB): 65; Vin Min(V): 1.8; DatasheetVersion: Rev. A; PackageVersion: Rev. G, 05/2013; PackageReference: MS8; PackageDescription: 8-Pin Plastic MSOP, Body 3 x 3 mm, Pitch 0.65 mm; Supplier 1: Digi-Key; Supplier Part Number 1: LT1762EMS8-3.3#TRPBF-ND; Supplier 2: Newark; Supplier Part Number 2: 57M6003; Packing: Tape and Reel; RoHS: TRUE; Shutdown Current(uA): 1; Vin Max(V): 20; Mounting Technology: Surface Mount; ComponentLink1Description: Manufacturer URL; ComponentLink1URL: http://www.linear.com/; ComponentLink2Description: Datasheet; ComponentLink2URL: http://cds.linear.com/docs/en/datasheet/1762fa.pdf; ComponentLink3Description: Package Specification; ComponentLink3URL: http://cds.linear.com/docs/en/packaging/05081660_G_MS8.pdf
footprint LT-MS8_N (SOP, 8-Leads, Body 3x3mm, Pitch 0.65mm, IPC Medium Density)
footprint LT-MS8_L (SOP, 8-Leads, Body 3x3mm, Pitch 0.65mm, IPC High Density)
footprint LT-MS8_M (SOP, 8-Leads, Body 3x3mm, Pitch 0.65mm, IPC Low Density)
part A pins: 1 OUT (power) "Output. The output supplies power to the load.", 2 SENSE (in) "Sense. For fixed voltage versions, the SENSE pin is the input to the error amplifier. Optimum regulation will be obtained at the point where the SENSE pin is connected to the OUT pin of the regulator. In critical (See Datasheet)", 3 BYP "Bypass. The BYP pin is used to bypass the reference of the LT1762 regulators to achieve low noise performance from the regulator. The BYP pin is clamped internally to +/-0.6V (one VBE). A small capacitor from the output to (See Datasheet)", 4 GND (power) "Ground.", 5 ~{SHDN} (in) "Shutdown. The S\H\D\N\ pin is used to put the regulators into a low power shutdown state. The output will be off when the S\H\D\N\ pin is pulled low. The S\H\D\N\ pin can be driven either by 5V logic or opencollector logic (See Datasheet)", 8 IN (power) "Input. Power is supplied to the device through the IN pin. A bypass capacitor is required on this pin if the device is more than six inches away from the main input filter capacitor. In general, the output impedance of a (See Datasheet)"
part B pins: 6 NC, 7 NC

## LT1762EMS8-5
designator U?
150 mA, Low Noise, LDO Micropower Regulator, 1.8 to 20 V Vin, 5 V Vout, 8-pin SOP (MS8-8), -40 to 125 degC; Manufacturer: Linear Technology; PartNumber: LT1762EMS8-5; Discrete Pass Element: no; Dropout Voltage(V): 0.27; Iout(mA): 150; Isupply(mA): 0.025; Noise(uV): 20; Number of Outputs: 1; Output Voltage: 5 V; PSRR(dB): 65; Vin Min(V): 1.8; DatasheetVersion: Rev. A; PackageVersion: Rev. G, 05/2013; PackageReference: MS8; PackageDescription: 8-Pin Plastic MSOP, Body 3 x 3 mm, Pitch 0.65 mm; Supplier 1: Digi-Key; Supplier Part Number 1: LT1762EMS8-5-ND; RoHS: FALSE; Shutdown Current(uA): 1; Vin Max(V): 20; Mounting Technology: Surface Mount; ComponentLink1Description: Manufacturer URL; ComponentLink1URL: http://www.linear.com/; ComponentLink2Description: Datasheet; ComponentLink2URL: http://cds.linear.com/docs/en/datasheet/1762fa.pdf; ComponentLink3Description: Package Specification; ComponentLink3URL: http://cds.linear.com/docs/en/packaging/05081660_G_MS8.pdf
footprint LT-MS8_N (SOP, 8-Leads, Body 3x3mm, Pitch 0.65mm, IPC Medium Density)
footprint LT-MS8_L (SOP, 8-Leads, Body 3x3mm, Pitch 0.65mm, IPC High Density)
footprint LT-MS8_M (SOP, 8-Leads, Body 3x3mm, Pitch 0.65mm, IPC Low Density)
part A pins: 1 OUT (power) "Output. The output supplies power to the load.", 2 SENSE (in) "Sense. For fixed voltage versions, the SENSE pin is the input to the error amplifier. Optimum regulation will be obtained at the point where the SENSE pin is connected to the OUT pin of the regulator. In critical (See Datasheet)", 3 BYP "Bypass. The BYP pin is used to bypass the reference of the LT1762 regulators to achieve low noise performance from the regulator. The BYP pin is clamped internally to +/-0.6V (one VBE). A small capacitor from the output to (See Datasheet)", 4 GND (power) "Ground.", 5 ~{SHDN} (in) "Shutdown. The S\H\D\N\ pin is used to put the regulators into a low power shutdown state. The output will be off when the S\H\D\N\ pin is pulled low. The S\H\D\N\ pin can be driven either by 5V logic or opencollector logic (See Datasheet)", 8 IN (power) "Input. Power is supplied to the device through the IN pin. A bypass capacitor is required on this pin if the device is more than six inches away from the main input filter capacitor. In general, the output impedance of a (See Datasheet)"
part B pins: 6 NC, 7 NC

## LT1762EMS8-5#PBF
designator U?
150 mA, Low Noise, LDO Micropower Regulator, 1.8 to 20 V Vin, 5 V Vout, 8-pin SOP (MS8-8), -40 to 125 degC, Pb-Free; Manufacturer: Linear Technology; PartNumber: LT1762EMS8-5#PBF; Discrete Pass Element: no; Dropout Voltage(V): 0.27; Iout(mA): 150; Isupply(mA): 0.025; Noise(uV): 20; Number of Outputs: 1; Output Voltage: 5 V; PSRR(dB): 65; Vin Min(V): 1.8; DatasheetVersion: Rev. A; PackageVersion: Rev. G, 05/2013; PackageReference: MS8; PackageDescription: 8-Pin Plastic MSOP, Body 3 x 3 mm, Pitch 0.65 mm; Supplier 1: Digi-Key; Supplier Part Number 1: LT1762EMS8-5#PBF-ND; Supplier 2: Farnell; Supplier Part Number 2: 1273612; Supplier 3: Newark; Supplier Part Number 3: 57M6008; RoHS: TRUE; Shutdown Current(uA): 1; Vin Max(V): 20; Mounting Technology: Surface Mount; ComponentLink1Description: Manufacturer URL; ComponentLink1URL: http://www.linear.com/; ComponentLink2Description: Datasheet; ComponentLink2URL: http://cds.linear.com/docs/en/datasheet/1762fa.pdf; ComponentLink3Description: Package Specification; ComponentLink3URL: http://cds.linear.com/docs/en/packaging/05081660_G_MS8.pdf
footprint LT-MS8_N (SOP, 8-Leads, Body 3x3mm, Pitch 0.65mm, IPC Medium Density)
footprint LT-MS8_L (SOP, 8-Leads, Body 3x3mm, Pitch 0.65mm, IPC High Density)
footprint LT-MS8_M (SOP, 8-Leads, Body 3x3mm, Pitch 0.65mm, IPC Low Density)
part A pins: 1 OUT (power) "Output. The output supplies power to the load.", 2 SENSE (in) "Sense. For fixed voltage versions, the SENSE pin is the input to the error amplifier. Optimum regulation will be obtained at the point where the SENSE pin is connected to the OUT pin of the regulator. In critical (See Datasheet)", 3 BYP "Bypass. The BYP pin is used to bypass the reference of the LT1762 regulators to achieve low noise performance from the regulator. The BYP pin is clamped internally to +/-0.6V (one VBE). A small capacitor from the output to (See Datasheet)", 4 GND (power) "Ground.", 5 ~{SHDN} (in) "Shutdown. The S\H\D\N\ pin is used to put the regulators into a low power shutdown state. The output will be off when the S\H\D\N\ pin is pulled low. The S\H\D\N\ pin can be driven either by 5V logic or opencollector logic (See Datasheet)", 8 IN (power) "Input. Power is supplied to the device through the IN pin. A bypass capacitor is required on this pin if the device is more than six inches away from the main input filter capacitor. In general, the output impedance of a (See Datasheet)"
part B pins: 6 NC, 7 NC

## LT1762EMS8-5#TR
designator U?
150 mA, Low Noise, LDO Micropower Regulator, 1.8 to 20 V Vin, 5 V Vout, 8-pin SOP (MS8-8), -40 to 125 degC, Tape and Reel; Manufacturer: Linear Technology; PartNumber: LT1762EMS8-5#TR; Discrete Pass Element: no; Dropout Voltage(V): 0.27; Iout(mA): 150; Isupply(mA): 0.025; Noise(uV): 20; Number of Outputs: 1; Output Voltage: 5 V; PSRR(dB): 65; Vin Min(V): 1.8; DatasheetVersion: Rev. A; PackageVersion: Rev. G, 05/2013; PackageReference: MS8; PackageDescription: 8-Pin Plastic MSOP, Body 3 x 3 mm, Pitch 0.65 mm; Supplier 1: Digi-Key; Supplier Part Number 1: LT1762EMS8-5#TR-ND; Packing: Tape and Reel; RoHS: FALSE; Shutdown Current(uA): 1; Vin Max(V): 20; Mounting Technology: Surface Mount; ComponentLink1Description: Manufacturer URL; ComponentLink1URL: http://www.linear.com/; ComponentLink2Description: Datasheet; ComponentLink2URL: http://cds.linear.com/docs/en/datasheet/1762fa.pdf; ComponentLink3Description: Package Specification; ComponentLink3URL: http://cds.linear.com/docs/en/packaging/05081660_G_MS8.pdf
footprint LT-MS8_N (SOP, 8-Leads, Body 3x3mm, Pitch 0.65mm, IPC Medium Density)
footprint LT-MS8_L (SOP, 8-Leads, Body 3x3mm, Pitch 0.65mm, IPC High Density)
footprint LT-MS8_M (SOP, 8-Leads, Body 3x3mm, Pitch 0.65mm, IPC Low Density)
part A pins: 1 OUT (power) "Output. The output supplies power to the load.", 2 SENSE (in) "Sense. For fixed voltage versions, the SENSE pin is the input to the error amplifier. Optimum regulation will be obtained at the point where the SENSE pin is connected to the OUT pin of the regulator. In critical (See Datasheet)", 3 BYP "Bypass. The BYP pin is used to bypass the reference of the LT1762 regulators to achieve low noise performance from the regulator. The BYP pin is clamped internally to +/-0.6V (one VBE). A small capacitor from the output to (See Datasheet)", 4 GND (power) "Ground.", 5 ~{SHDN} (in) "Shutdown. The S\H\D\N\ pin is used to put the regulators into a low power shutdown state. The output will be off when the S\H\D\N\ pin is pulled low. The S\H\D\N\ pin can be driven either by 5V logic or opencollector logic (See Datasheet)", 8 IN (power) "Input. Power is supplied to the device through the IN pin. A bypass capacitor is required on this pin if the device is more than six inches away from the main input filter capacitor. In general, the output impedance of a (See Datasheet)"
part B pins: 6 NC, 7 NC